# Altium footprint library QFN65P500X400X115_HS.PcbLib: 1 footprints
Each footprint in its own frame and in the unit in brackets; x right, y up, seen from the top. Pads: shape width x height; smd on the part's side, far side on the other; paste and mask are expansions set on the pad; w line width, h text height; cw(c..) or ccw(c..) is an arc to the next point about the centre after c.
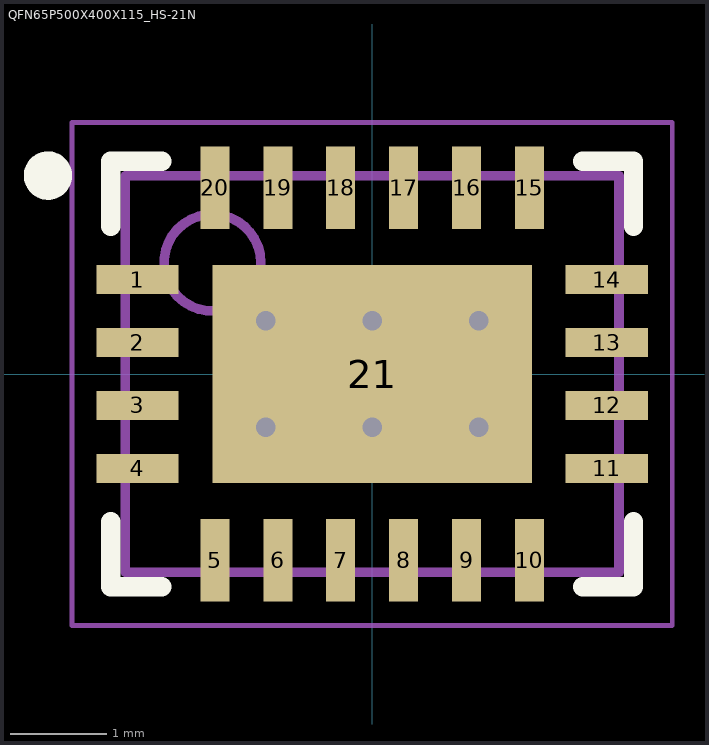
[diagram p0: the footprint, top view; thin cyan lines are the x and y axes]

## QFN65P500X400X115_HS-21N [mm] "QFN, 20-Leads, Body 5.00x4.00mm, Pitch 0.65mm, Thermal Pad 3.30x2.25mm, IPC Medium Density"
height 1.15
pads (21):
  rect 0.85x0.3 smd: 1(-2.425,0.975) 2(-2.425,0.325) 3(-2.425,-0.325) 4(-2.425,-0.975) 11(2.425,-0.975) 12(2.425,-0.325) 13(2.425,0.325) 14(2.425,0.975)
  rect 0.3x0.85 smd: 5(-1.625,-1.925) 6(-0.975,-1.925) 7(-0.325,-1.925) 8(0.325,-1.925) 9(0.975,-1.925) 10(1.625,-1.925) 15(1.625,1.925) 16(0.975,1.925) 17(0.325,1.925) 18(-0.325,1.925) 19(-0.975,1.925) 20(-1.625,1.925)
  rect 3.3x2.25 smd: 21(0,0)
via -1.1,0.55 diameter 0.5 hole 0.2
via 0,0.55 diameter 0.5 hole 0.2
via 1.1,0.55 diameter 0.5 hole 0.2
via -1.1,-0.55 diameter 0.5 hole 0.2
via 0,-0.55 diameter 0.5 hole 0.2
via 1.1,-0.55 diameter 0.5 hole 0.2
Top Overlay:
  circle w0.25: c-3.35,2.05 r0.125
  lines w0.2: -2.7,-1.525 -2.7,-2.2 -2.175,-2.2 ; -2.7,1.525 -2.7,2.2 -2.175,2.2 ; 2.175,-2.2 2.7,-2.2 2.7,-1.525 ; 2.175,2.2 2.7,2.2 2.7,1.525
Mechanical 13:
  circle w0.1: c-1.65,1.15 r0.5
  lines w0.1: -2.55,-2.05 -2.55,2.05 2.55,2.05 2.55,-2.05 -2.55,-2.05
Mechanical 15:
  lines w0.05: -3.1,-2.6 -3.1,2.6 3.1,2.6 3.1,-2.6 -3.1,-2.6
  lines w0.1: -0.5,0 0.5,0 ; 0,-0.5 0,0.5
3D body: height 1.15, standoff 0, extent -2.55,-2.05 2.55,2.05